# Altium schematic symbol library SN74LVC1G14.SchLib: 1 symbol
Pins are listed as number, name and electrical type; pins without a type are passive.

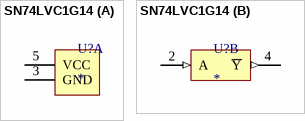
[diagram p0: symbol SN74LVC1G14]

## SN74LVC1G14
designator U?
TEXAS INSTRUMENTS - SN74LVC1G14DCKR - INVERTER, SINGLE, SCHMITT-TRIG, 5SC70; farnell: 1236329
footprint SN74LVC1G14 (TEXAS INSTRUMENTS - SN74LVC1G14DCKR - INVERTER, SINGLE, SCHMITT-TRIG, 5SC70)
part A pins: 3 GND (power), 5 VCC (power)
part B pins: 2 A (in), 4 ~{Y} (out)